# Altium footprint library TSOP36XXXTT.PcbLib: 1 footprints
Each footprint in its own frame and in the unit in brackets; x right, y up, seen from the top. Pads: shape width x height; smd on the part's side, far side on the other; paste and mask are expansions set on the pad; w line width, h text height; cw(c..) or ccw(c..) is an arc to the next point about the centre after c.
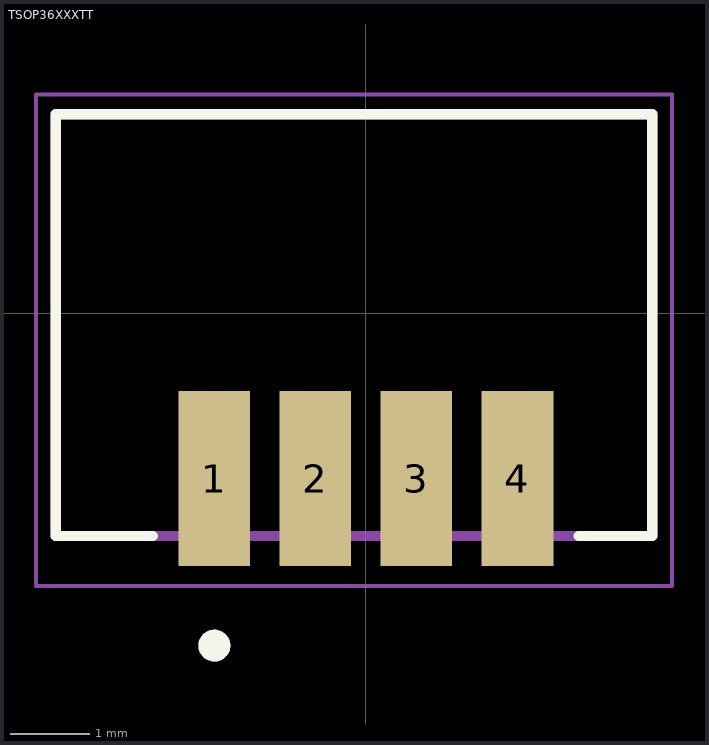
[diagram p0: the footprint, top view; thin cyan lines are the x and y axes]

## TSOP36XXXTT [mm]
pads (4):
  rect 0.9x2.2 smd: 1(-1.905,-2.08) 2(-0.635,-2.08) 3(0.635,-2.08) 4(1.905,-2.08)
Top Overlay:
  circle w0.2: c-1.905,-4.18 r0.1
  lines w0.127: -2.675,-2.8 -3.9,-2.8 -3.9,2.5 3.6,2.5 3.6,-2.8 2.675,-2.8
Top 3D Body:
  circle w0.2: c-1.905,-4.18 r0.1
  lines w0.127: -3.9,-2.8 -3.9,2.5 3.6,2.5 3.6,-2.8 -3.9,-2.8
Top Courtyard:
  lines w0.05: -4.15,-3.43 -4.15,2.75 3.85,2.75 3.85,-3.43 -4.15,-3.43
3D body "step_temp.STEP": height 4, standoff 0, extent -3.9,-2.8 3.6,2.5